# Altium schematic symbol library op-amp_2.Schlib: 1 symbol
Pins are listed as number, name and electrical type; pins without a type are passive.

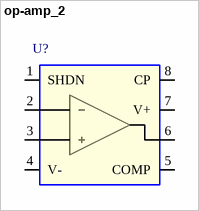
[diagram p0: symbol op-amp_2]

## op-amp_2
designator U?  (value not drawn)
Op Amp, Generic, 8-pin
pins: 1 SHDN, 2, 3, 4 V-, 5 COMP, 6, 7 V+, 8 CP